# Altium footprint library type-c_pcb.PcbLib: 25 footprints (part 2 of 2)
Each footprint in its own frame and in the unit in brackets; x right, y up, seen from the top. Pads: shape width x height; smd on the part's side, far side on the other; paste and mask are expansions set on the pad; w line width, h text height; cw(c..) or ccw(c..) is an arc to the next point about the centre after c.
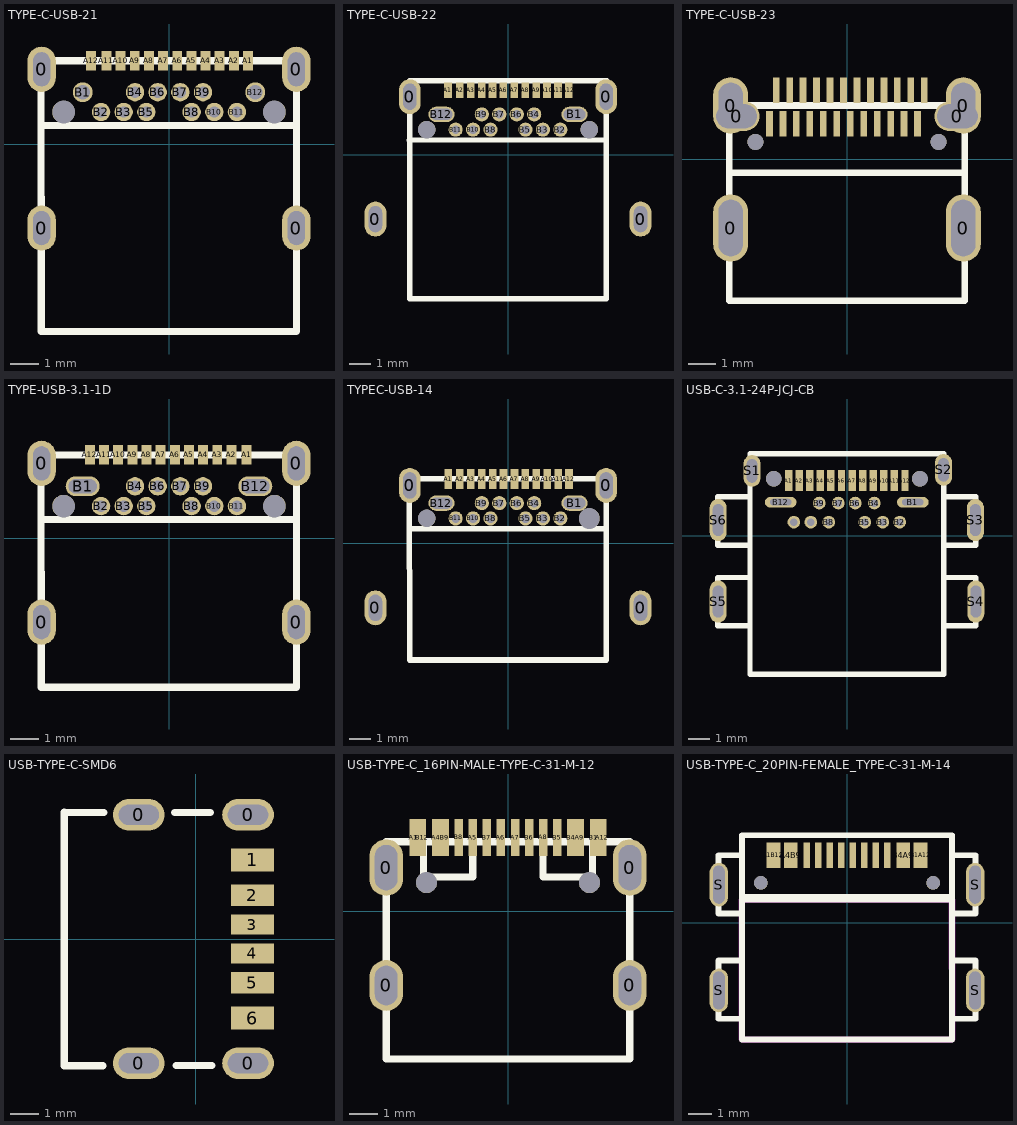
[diagram p1: the footprints below, top view; thin cyan lines are the x and y axes]

## TYPE-C-USB-21 [mm]
pads (30):
  oval 1x1.6 hole 0.6 slot 1.2 at 90 deg: 0(-4.5,-2.955) 0(-4.5,2.655) 0(4.5,-2.955) 0(4.5,2.655)
  rect 0.35x0.7 smd: A1(2.79,2.955) A2(2.29,2.955) A3(1.79,2.955) A4(1.29,2.955) A5(0.79,2.955) A6(0.29,2.955) A7(-0.21,2.955) A8(-0.71,2.955) A9(-1.21,2.955) A10(-1.71,2.955) A11(-2.21,2.955) A12(-2.75,2.955)
  round 0.7 hole 0.5: B1(-3.05,1.845) B12(3.05,1.845)
  round 0.65 hole 0.4: B2(-2.4,1.145) B3(-1.6,1.145) B4(-1.2,1.845) B5(-0.8,1.145) B6(-0.4,1.845) B7(0.4,1.845) B8(0.8,1.145) B9(1.2,1.845) B10(1.6,1.145) B11(2.4,1.145)
  round 0.8 hole 0.8 unplated: ""(-3.725,1.145) ""(3.725,1.145)
Top Overlay:
  lines w0.254: -4.521,0.664 4.51,0.675 ; -4.511,-6.605 -4.521,2.955 4.52,2.955 ; -4.5,-6.605 4.5,-6.605 ; 4.51,-6.605 4.51,2.985 4.52,2.985

## TYPE-C-USB-22 [mm]
pads (30):
  oval 1x1.6 hole 0.6 slot 1.2 at 90 deg: 0(-6.075,-2.955) 0(-4.5,2.655) 0(4.5,2.655) 0(6.075,-2.955)
  rect 0.35x0.7 smd: A1(-2.75,2.955) A2(-2.21,2.955) A3(-1.71,2.955) A4(-1.21,2.955) A5(-0.71,2.955) A6(-0.21,2.955) A7(0.29,2.955) A8(0.79,2.955) A9(1.29,2.955) A10(1.79,2.955) A11(2.29,2.955) A12(2.79,2.955)
  oval 1.2x0.7 hole 0.5 slot 1 at 0 deg: B1(3.05,1.845) B12(-3.05,1.845)
  round 0.65 hole 0.4: B2(2.4,1.145) B3(1.6,1.145) B4(1.2,1.845) B5(0.8,1.145) B6(0.4,1.845) B7(-0.4,1.845) B8(-0.8,1.145) B9(-1.2,1.845) B10(-1.6,1.145) B11(-2.4,1.145)
  round 0.8 hole 0.8 unplated: ""(-3.725,1.145) ""(3.725,1.145)
Top Overlay:
  lines w0.254: -4.521,0.664 4.51,0.675 ; 4.5,-6.605 -4.5,-6.605 -4.5,3.395 4.5,3.395 ; 4.51,-6.605 4.51,2.985 4.52,3.395

## TYPE-C-USB-23 [mm]
pads (32):
  oval 1.3x2.5 hole 0.9 slot 2.1 at 90 deg: 0(-4.32,-2.56) 0(4.32,-2.56)
  oval 1.3x2.1 hole 0.9 slot 1.7 at 90 deg: 0(-4.32,1.99) 0(4.32,1.99)
  oval 1.7x1.1 hole 0.9 slot 1.5 at 0 deg: 0(-4.1,1.59) 0(4.1,1.59)
  rect 0.25x0.95 smd: A1(-2.63,2.56) A2(-2.13,2.56) A3(-1.63,2.56) A4(-1.13,2.56) A5(-0.63,2.56) A6(-0.13,2.56) A7(0.37,2.56) A8(0.87,2.56) A9(1.37,2.56) A10(1.87,2.56) A11(2.37,2.56) A12(2.87,2.56) B1(2.62,1.31) B2(2.12,1.31) B3(1.62,1.31) B4(1.12,1.31) B5(0.62,1.31) B6(0.12,1.31) B7(-0.38,1.31) B8(-0.88,1.31) B9(-1.38,1.31) B10(-1.88,1.31) B11(-2.38,1.31) B12(-2.88,1.31)
  round 0.6 hole 0.6 unplated: ""(-3.4,0.64) ""(3.4,0.64)
Top Overlay:
  lines w0.254: -4.37,-5.26 4.37,-5.26 4.37,1.99 -4.37,1.99 -4.37,-5.21 ; -4.37,-0.509 4.37,-0.509

## TYPE-USB-3.1-1D [mm]
pads (30):
  oval 1x1.6 hole 0.6 slot 1.2 at 90 deg: 0(-4.5,-2.958) 0(-4.5,2.653) 0(4.5,-2.958) 0(4.5,2.653)
  rect 0.35x0.7 smd: A1(2.745,2.958) A2(2.205,2.958) A3(1.705,2.958) A4(1.205,2.958) A5(0.705,2.958) A6(0.205,2.958) A7(-0.295,2.958) A8(-0.795,2.958) A9(-1.295,2.958) A10(-1.795,2.958) A11(-2.295,2.958) A12(-2.795,2.958)
  oval 1.2x0.7 hole 0.5 slot 1 at 0 deg: B1(-3.05,1.843) B12(3.05,1.843)
  round 0.65 hole 0.4: B2(-2.4,1.142) B3(-1.6,1.142) B4(-1.2,1.843) B5(-0.8,1.142) B6(-0.4,1.843) B7(0.4,1.843) B8(0.8,1.142) B9(1.2,1.843) B10(1.6,1.142) B11(2.4,1.142)
  round 0.8 hole 0.8 unplated: ""(-3.725,1.142) ""(3.725,1.142)
Top Overlay:
  lines w0.254: -4.521,0.661 4.51,0.672 ; -4.511,-5.258 -4.521,2.952 4.52,2.952 ; -4.5,-5.258 4.5,-5.258 ; 4.51,-5.258 4.51,2.983 4.52,2.983

## TYPEC-USB-14 [mm]
pads (30):
  oval 1x1.6 hole 0.6 slot 1.2 at 90 deg: 0(-6.075,-2.952) 0(-4.5,2.658) 0(4.5,2.658) 0(6.075,-2.952)
  rect 0.35x0.9 smd: A1(-2.745,2.952) A2(-2.205,2.952) A3(-1.705,2.952) A4(-1.205,2.952) A5(-0.705,2.952) A6(-0.205,2.952) A7(0.295,2.952) A8(0.795,2.952) A9(1.295,2.952) A10(1.795,2.952) A11(2.295,2.952) A12(2.795,2.952)
  oval 1.2x0.7 hole 0.5 slot 1 at 0 deg: B1(3.05,1.848) B12(-3.05,1.848)
  round 0.65 hole 0.4: B2(2.4,1.148) B3(1.6,1.148) B4(1.2,1.848) B5(0.8,1.148) B6(0.4,1.848) B7(-0.4,1.848) B8(-0.8,1.148) B9(-1.2,1.848) B10(-1.6,1.148) B11(-2.4,1.148)
  round 0.8 hole 0.8 unplated: ""(-3.725,1.148)
  round 0.95 hole 0.95 unplated: ""(3.725,1.148)
Top Overlay:
  lines w0.254: -4.521,0.666 4.51,0.678 ; -4.511,-5.342 -4.521,2.958 4.52,2.958 ; -4.5,-5.342 4.5,-5.342 ; 4.51,-5.342 4.51,2.988 4.52,2.988

## USB-C-3.1-24P-JCJ-CB [mm]
pads (32):
  rect 0.35x1 smd: A1(-2.761,2.601) A2(-2.26,2.601) A3(-1.761,2.601) A4(-1.26,2.601) A5(-0.761,2.601) A6(-0.261,2.601) A7(0.239,2.601) A8(0.739,2.601) A9(1.239,2.601) A10(1.74,2.601) A11(2.239,2.601) A12(2.74,2.601)
  oval 1.5x0.5 hole 0.3 slot 1 at 0 deg: B1(3.109,1.585) B12(-3.131,1.585)
  round 0.6 hole 0.35: B2(2.489,0.641) B3(1.689,0.641) B4(1.289,1.541) B5(0.839,0.641) B6(0.39,1.541) B7(-0.411,1.541) B8(-0.861,0.641) B9(-1.311,1.541) B10(-1.711,0.641) B11(-2.511,0.641)
  oval 0.8x1.5 hole 0.5 slot 1.1 at 90 deg: S1(-4.486,3.061) S2(4.561,3.109)
  oval 0.8x2 hole 0.5 slot 1.5 at 90 deg: S3(6.064,0.741) S4(6.085,-3.109) S5(-6.085,-3.109) S6(-6.085,0.741)
  round 0.75 hole 0.75 unplated: ""(-3.461,2.691) ""(3.44,2.691)
Top Overlay:
  lines w0.254: -6.107,-4.257 -6.107,-1.971 -4.583,-1.971 -4.583,-4.257 -6.107,-4.257 ; -6.107,-0.447 -6.107,1.839 -4.583,1.839 -4.583,-0.447 -6.107,-0.447 ; -4.583,-6.543 -4.583,3.871 4.561,3.871 4.561,-6.543 -4.583,-6.543 ; 4.561,-4.257 4.561,-1.971 6.085,-1.971 6.085,-4.257 4.561,-4.257 ; 4.561,-0.447 4.561,1.839 6.085,1.839 6.085,-0.447 4.561,-0.447

## USB-TYPE-C-SMD6 [mm]
pads (10):
  oval 1.8x1.1 hole 0.7 slot 1.401 at 0 deg: 0(-1.975,-4.32) 0(-1.975,4.32) 0(1.825,-4.32) 0(1.825,4.32)
  rect 1.5x0.8 smd: 1(1.975,2.75) 6(1.975,-2.75)
  rect 1.5x0.76 smd: 2(1.975,1.52) 5(1.975,-1.52)
  rect 1.5x0.7 smd: 3(1.975,0.5) 4(1.975,-0.5)
Top Overlay:
  lines w0.254: -4.576,-4.409 -3.224,-4.409 ; -4.575,-4.41 -4.575,4.41 ; -4.575,4.4 -3.195,4.4 ; -0.725,4.4 0.515,4.4 ; -0.677,-4.4 0.563,-4.4

## USB-TYPE-C_16PIN-MALE-TYPE-C-31-M-12 [mm]
pads (22):
  oval 1.2x1.8 hole 0.8 slot 1.4 at 90 deg: 0(-4.32,-2.624) 0(4.32,-2.624)
  oval 1.2x2 hole 0.8 slot 1.6 at 90 deg: 0(-4.32,1.556) 0(4.32,1.556)
  rect 0.3x1.3 smd: A1(-3.35,2.623) A4(-2.55,2.623) A5(-1.25,2.623) A6(-0.25,2.623) A7(0.25,2.623) A8(1.25,2.624) A9(2.55,2.623) A12(3.35,2.623) B1(3.05,2.623) B4(2.25,2.623) B5(1.75,2.623) B6(0.75,2.623) B7(-0.75,2.623) B8(-1.75,2.624) B9(-2.25,2.623) B12(-3.05,2.623)
  round 0.75 hole 0.75 unplated: ""(-2.89,1.026) ""(2.89,1.026)
Top Overlay:
  lines w0.254: -3,2.471 -3,1.221 -1.25,1.221 -1.25,2.471 ; 1.247,2.473 1.247,1.223 2.997,1.223 2.997,2.473 ; -4.32,-5.227 -4.32,2.471 4.32,2.471 4.32,-5.227 -4.32,-5.227

## USB-TYPE-C_20PIN-FEMALE_TYPE-C-31-M-14 [mm]
pads (18):
  rect 0.6x1.1 smd: A1B12(-3.2,2.94) A4B9(-2.45,2.94) B1A12(3.2,2.94) B4A9(2.45,2.94)
  rect 0.3x1.1 smd: A5(-1.249,2.94) A6(-0.251,2.94) A7(0.25,2.94) A8(1.25,2.94) B5(1.75,2.94) B6(0.75,2.94) B7(-0.751,2.94) B8(-1.749,2.94)
  oval 0.8x1.9 hole 0.5 slot 1.65 at 90 deg: S(-5.575,-2.94) S(-5.575,1.66) S(5.575,-2.94) S(5.575,1.66)
  round 0.6 hole 0.6 unplated: ""(-3.75,1.74) ""(3.75,1.74)
Top Overlay:
  lines w0.254: -4.572,-4.172 -5.588,-4.172 -5.588,-1.632 -4.572,-1.632 ; -4.572,0.4 -5.588,0.4 -5.588,2.94 -4.572,2.94 ; -4.572,1.137 4.572,1.137 ; -4.572,1.188 -4.572,-5.08 4.572,-5.08 4.572,1.188 ; 4.572,-4.172 5.588,-4.172 5.588,-1.632 4.572,-1.632 ; 4.572,0.4 5.588,0.4 5.588,2.94 4.572,2.94 ; -4.572,1.01 -4.572,3.81 4.572,3.81 4.572,1.01 -4.572,1.01
Keep-Out Layer:
  board cut-out: -4.572,1.137 4.572,1.148 4.669,1.107 4.709,1.01 4.669,0.913 4.572,0.873 4.572,0.883 -4.572,0.873 -4.669,0.913 -4.709,1.01 -4.669,1.107 -4.572,1.148
  board cut-out: 4.699,1.01 4.709,-5.079 4.669,-5.176 4.572,-5.216 4.475,-5.176 4.435,-5.079 4.445,-5.079 4.435,1.01 4.475,1.107 4.572,1.148 4.669,1.107 4.709,1.01
  board cut-out: 4.573,-5.206 -4.571,-5.216 -4.668,-5.176 -4.709,-5.079 -4.698,-5.079 -4.709,1.01 -4.668,1.107 -4.571,1.147 -4.474,1.107 -4.434,1.01 -4.444,1.01 -4.444,-4.952 4.573,-4.941 4.67,-4.982 4.71,-5.079 4.67,-5.176 4.573,-5.216